# Altium integrated library Infineon_Power_MOSFET.IntLib: 1448 symbols (part 36 of 47)
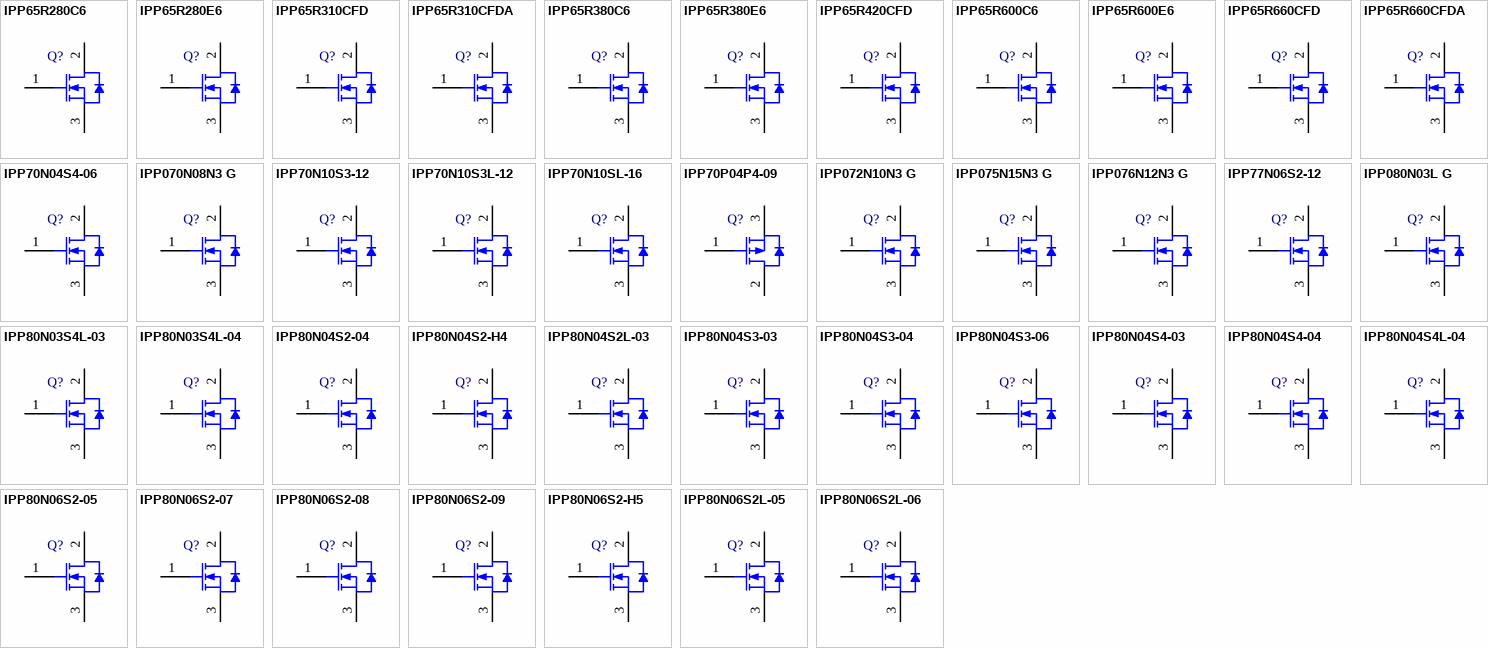
[diagram p72: symbols IPP65R280C6 to IPP80N06S2L-06]

## IPP70N04S4-06
designator Q?
OptiMOS-T2 Power-Transistor, 40 V VDS, 70 A ID, PG-TO220-3-1, Tube, Green; Manufacturer: Infineon; PartNumber: IPP70N04S4-06; Green: TRUE; ID (max): 70 A; IDpuls (max): 280 A; Ptot (max): 58 W; QG: 24.5 nC; RDS (on) (max) (@10V): 6.5 mOhm; RthJC (max): 2.6 K/W; VDS (max): 40 V; VGS(th) (max): 4 V; VGS(th) (min): 2 V; DatasheetVersion: Rev. 1.0; PackageVersion: Jul-12; PackageReference: PG-TO220-3-1; PackageDescription: 3-Pin Plastic (Green) Transistor Single Outline Package, 10 x 9.25 mm Body, 2.54 mm Pitch; Supplier 1: Mouser; Supplier Part Number 1: 726-IPP70N04S4-06; Supplier 2: Digi-Key; Supplier Part Number 2: IPP70N04S4-06-ND; Halogen-free: TRUE; Packing: Tube; Technology: OptiMOS-T2; Mounting Technology: Through Hole; ComponentLink1Description: Manufacturer URL; ComponentLink1URL: http://www.infineon.com/; ComponentLink2Description: Datasheet; ComponentLink2URL: http://www.infineon.com/dgdl/IPP_B_I70N04S4-06_DS_1_0.pdf?folderId=db3a304412b407950112b42b75b74520&fileId=db3a304328c6bd5c01291c501db65d98&location=en.Products.Automotive_ICs.Automotive_MOSFETs.Single__N-Channel_40V_MOSFETs.DATASHEET.IPP_B_I70N04S4-06_DS_1_0.pdf; ComponentLink3Description: Package Specification; ComponentLink3URL: http://www.infineon.com/dgdl/BTS117_DS_14.pdf?folderId=db3a30431400ef68011421b54e2e0564&fileId=db3a30433a747525013abff8302d549c&location=en.Products.Automotive_ICs.Smart_High-_and_Low-Side_Switches.HITFET___TEMPFET__-_Smart_Low-Side_Switches.DATASHEET.BTS117_DS_14.pdf
footprint INF-PG-TO220-3-1 (FM, 3-Leads, Body 10x4.4mm, Pitch 2.54mm)
pins: 1 GATE, 2 DRAIN, 3 SOURCE

## IPP070N08N3 G
designator Q?
N-Channel OptiMOS 3 Power-Transistor, 80 V VDS, 80 A ID, -55 to 175 degC, PG-TO220-3-1, Tube, Green; Manufacturer: Infineon; PartNumber: IPP070N08N3 G; Green: TRUE; ID (max): 80 A; IDpuls (max): 320 A; Polarity: N; Ptot (max): 136 W; QG: 42 nC; RDS (on) (max): 7 mOhm; Rth: 1.1 K/W; RthJA (max): 62 K/W; VDS (max): 80 V; VGS(th) (max): 3.5 V; VGS(th) (min): 2 V; DatasheetVersion: Rev. 2.3; PackageVersion: Rev. 05, 08/2007; PackageReference: PG-TO220-3-1; PackageDescription: 3-Pin Plastic (Green) Transistor Single Outline Package, 10.03 x 8.98 mm Body, 2.54 mm Pitch; Supplier 1: Mouser; Supplier Part Number 1: 726-IPP070N08N3G; Supplier 2: Digi-Key; Supplier Part Number 2: IPP070N08N3 G-ND; Halogen-free: TRUE; Packing: Tube; RthJC (max): 1.1 K/W; Mounting Technology: Through Hole; ComponentLink1Description: Manufacturer URL; ComponentLink1URL: http://www.infineon.com/; ComponentLink2Description: Datasheet; ComponentLink2URL: http://www.infineon.com/dgdl/IPP070N08N3_Rev2.3.pdf?folderId=db3a304313b8b5a60113cee8763b02d7&fileId=db3a30431add1d95011ae849e8f1566b; ComponentLink3Description: Package Specification; ComponentLink3URL: http://www.infineon.com/dgdl/IPP028N08N3_Rev1%5B1%5D.0.pdf?folderId=db3a304313b8b5a60113cee8763b02d7&fileId=db3a30432313ff5e0123a3c08e7326b5
footprint INF-PG-TO220-3-1_A_V (FM, 3-Leads, Body 10.03x8.98mm, Pitch 2.54mm)
pins: 1 GATE, 2 DRAIN, 3 SOURCE

## IPP70N10S3-12
designator Q?
OptiMOS-T Power-Transistor, 100 V VDS, 70 A ID, PG-TO220-3-1, Tube, Green; Manufacturer: Infineon; PartNumber: IPP70N10S3-12; Green: TRUE; ID (max): 70 A; IDpuls (max): 280 A; Ptot (max): 125 W; QG: 51 nC; RDS (on) (max) (@10V): 11.6 mOhm; RthJC (max): 1.2 K/W; VDS (max): 100 V; VGS(th) (max): 4 V; VGS(th) (min): 2 V; DatasheetVersion: Rev. 1.0; PackageVersion: Jul-12; PackageReference: PG-TO220-3-1; PackageDescription: 3-Pin Plastic (Green) Transistor Single Outline Package, 10 x 9.25 mm Body, 2.54 mm Pitch; Supplier 1: Mouser; Supplier Part Number 1: 726-IPP70N10S312; Supplier 2: Digi-Key; Supplier Part Number 2: IPP70N10S3-12-ND; Halogen-free: TRUE; Packing: Tube; Technology: OptiMOS-T; Mounting Technology: Through Hole; ComponentLink1Description: Manufacturer URL; ComponentLink1URL: http://www.infineon.com/; ComponentLink2Description: Datasheet; ComponentLink2URL: http://www.infineon.com/dgdl/IPP_B_I70N10S3-12_neu.pdf?folderId=db3a3043156fd5730115c7d50620107c&fileId=db3a30431a5c32f2011a909803815967&location=en.Products.Automotive_ICs.Automotive_MOSFETs.Single__N-Channel_100V_MOSFETs.DATASHEET.IPP_B_I70N10S3-12_neu.pdf; ComponentLink3Description: Package Specification; ComponentLink3URL: http://www.infineon.com/dgdl/BTS117_DS_14.pdf?folderId=db3a30431400ef68011421b54e2e0564&fileId=db3a30433a747525013abff8302d549c&location=en.Products.Automotive_ICs.Smart_High-_and_Low-Side_Switches.HITFET___TEMPFET__-_Smart_Low-Side_Switches.DATASHEET.BTS117_DS_14.pdf
footprint INF-PG-TO220-3-1 (FM, 3-Leads, Body 10x4.4mm, Pitch 2.54mm)
pins: 1 GATE, 2 DRAIN, 3 SOURCE

## IPP70N10S3L-12
designator Q?
OptiMOS-T Power-Transistor, 100 V VDS, 70 A ID, PG-TO220-3-1, Tube, Green; Manufacturer: Infineon; PartNumber: IPP70N10S3L-12; Green: TRUE; ID (max): 70 A; IDpuls (max): 280 A; Ptot (max): 125 W; QG: 60 nC; RDS (on) (max) (@10V): 12.1 mOhm; RDS (on) (max) (@4.5V): 15.8 mOhm; RthJC (max): 1.2 K/W; VDS (max): 100 V; VGS(th) (max): 2.4 V; VGS(th) (min): 1.2 V; DatasheetVersion: Rev. 1.2; PackageVersion: Jul-12; PackageReference: PG-TO220-3-1; PackageDescription: 3-Pin Plastic (Green) Transistor Single Outline Package, 10 x 9.25 mm Body, 2.54 mm Pitch; Supplier 1: Mouser; Supplier Part Number 1: 726-IPP70N10S3L-12; Supplier 2: Digi-Key; Supplier Part Number 2: IPP70N10S3L-12-ND; Halogen-free: TRUE; Packing: Tube; Technology: OptiMOS-T; Mounting Technology: Through Hole; ComponentLink1Description: Manufacturer URL; ComponentLink1URL: http://www.infineon.com/; ComponentLink2Description: Datasheet; ComponentLink2URL: http://www.infineon.com/dgdl/IPP_B_I70N10S3L-12_DS_1_2.pdf?folderId=db3a3043156fd5730115c7d50620107c&fileId=db3a30431a5c32f2011a907bea255942&location=en.Products.Automotive_ICs.Automotive_MOSFETs.Single__N-Channel_100V_MOSFETs.DATASHEET.IPP_B_I70N10S3L-12_DS_1_2.pdf; ComponentLink3Description: Package Specification; ComponentLink3URL: http://www.infineon.com/dgdl/BTS117_DS_14.pdf?folderId=db3a30431400ef68011421b54e2e0564&fileId=db3a30433a747525013abff8302d549c&location=en.Products.Automotive_ICs.Smart_High-_and_Low-Side_Switches.HITFET___TEMPFET__-_Smart_Low-Side_Switches.DATASHEET.BTS117_DS_14.pdf
footprint INF-PG-TO220-3-1 (FM, 3-Leads, Body 10x4.4mm, Pitch 2.54mm)
pins: 1 GATE, 2 DRAIN, 3 SOURCE

## IPP70N10SL-16
designator Q?
SIPMOS Power-Transistor, 100 V VDS, 70 A ID, PG-TO220-3-1, Tube, Green; Manufacturer: Infineon; PartNumber: IPP70N10SL-16; Green: TRUE; ID (max): 70 A; IDpuls (max): 280 A; Ptot (max): 250 W; QG: 160 nC; RDS (on) (max) (@10V): 16 mOhm; RDS (on) (max) (@4.5V): 25 mOhm; RthJC (max): 0.6 K/W; VDS (max): 100 V; VGS(th) (max): 2 V; VGS(th) (min): 1.2 V; PackageVersion: Jul-12; PackageReference: PG-TO220-3-1; PackageDescription: 3-Pin Plastic (Green) Transistor Single Outline Package, 10 x 9.25 mm Body, 2.54 mm Pitch; Supplier 1: Mouser; Supplier Part Number 1: 726-IPP70N10SL16; Supplier 2: Digi-Key; Supplier Part Number 2: IPP70N10SL-16-ND; Halogen-free: TRUE; Packing: Tube; Technology: SIPMOS; Mounting Technology: Through Hole; ComponentLink1Description: Manufacturer URL; ComponentLink1URL: http://www.infineon.com/; ComponentLink2Description: Datasheet; ComponentLink2URL: http://www.infineon.com/dgdl/IPP_B_I70N10SL-16.pdf?folderId=db3a304412b407950112b42a6a0a4339&fileId=db3a304412b407950112b42a72ce4342&location=en.Products.Automotive_ICs.Automotive_MOSFETs.Single__N-Channel_100V_MOSFETs.DATASHEET.IPP_B_I70N10SL-16.pdf; ComponentLink3Description: Package Specification; ComponentLink3URL: http://www.infineon.com/dgdl/BTS117_DS_14.pdf?folderId=db3a30431400ef68011421b54e2e0564&fileId=db3a30433a747525013abff8302d549c&location=en.Products.Automotive_ICs.Smart_High-_and_Low-Side_Switches.HITFET___TEMPFET__-_Smart_Low-Side_Switches.DATASHEET.BTS117_DS_14.pdf
footprint INF-PG-TO220-3-1 (FM, 3-Leads, Body 10x4.4mm, Pitch 2.54mm)
pins: 1 GATE, 2 DRAIN, 3 SOURCE

## IPP70P04P4-09
designator Q?
OptiMOS-P2 Power-Transistor, -40 V VDS, -70 A ID, PG-TO220-3-1, Tube, Green; Manufacturer: Infineon; PartNumber: IPP70P04P4-09; Green: TRUE; ID (max): -70 A; IDpuls (max): -288 A; Ptot (max): 75 W; QG: 54 nC; RDS (on) (max) (@10V): 9.4 mOhm; RthJC (max): 2 K/W; VDS (max): -40 V; VGS(th) (max): -4 V; VGS(th) (min): -2 V; DatasheetVersion: Rev. 1.3; PackageVersion: Jul-12; PackageReference: PG-TO220-3-1; PackageDescription: 3-Pin Plastic (Green) Transistor Single Outline Package, 10 x 9.25 mm Body, 2.54 mm Pitch; Supplier 1: Mouser; Supplier Part Number 1: 726-IPP70P04P4-09; Halogen-free: TRUE; Packing: Tube; Technology: OptiMOS-P2; Mounting Technology: Through Hole; ComponentLink1Description: Manufacturer URL; ComponentLink1URL: http://www.infineon.com/; ComponentLink2Description: Datasheet; ComponentLink2URL: http://www.infineon.com/dgdl/IPP_B_I70P04P4-09_DS_13.pdf?folderId=db3a304412b407950112b42b75b74520&fileId=db3a30432f69f146012f782d29312e0f&location=en.Products.Automotive_ICs.Automotive_MOSFETs.Single__P-Channel_40V_MOSFETs.DATASHEET.IPP_B_I70P04P4-09_DS_13.pdf; ComponentLink3Description: Package Specification; ComponentLink3URL: http://www.infineon.com/dgdl/BTS117_DS_14.pdf?folderId=db3a30431400ef68011421b54e2e0564&fileId=db3a30433a747525013abff8302d549c&location=en.Products.Automotive_ICs.Smart_High-_and_Low-Side_Switches.HITFET___TEMPFET__-_Smart_Low-Side_Switches.DATASHEET.BTS117_DS_14.pdf
footprint INF-PG-TO220-3-1 (FM, 3-Leads, Body 10x4.4mm, Pitch 2.54mm)
pins: 1 GATE, 2 DRAIN, 3 SOURCE

## IPP072N10N3 G
designator Q?
N-Channel OptiMOS 3 Power-Transistor, 100 V VDS, 80 A ID, -55 to 175 degC, PG-TO220-3-1, Tube, Green; Manufacturer: Infineon; PartNumber: IPP072N10N3 G; Green: TRUE; ID (max): 80 A; IDpuls (max): 320 A; Polarity: N; Ptot (max): 150 W; QG: 51 nC; RDS (on) (max): 7.2 mOhm; Rth: 1 K/W; RthJA (max): 62 K/W; VDS (max): 100 V; VGS(th) (max): 3.5 V; VGS(th) (min): 2 V; DatasheetVersion: Rev. 2.1; PackageVersion: Rev. 05, 08/2007; PackageReference: PG-TO220-3-1; PackageDescription: 3-Pin Plastic (Green) Transistor Single Outline Package, 10.03 x 8.98 mm Body, 2.54 mm Pitch; Supplier 1: Mouser; Supplier Part Number 1: 726-IPP072N10N3G; Supplier 2: Digi-Key; Supplier Part Number 2: IPP072N10N3 G-ND; Halogen-free: TRUE; Packing: Tube; RthJC (max): 1 K/W; Mounting Technology: Through Hole; ComponentLink1Description: Manufacturer URL; ComponentLink1URL: http://www.infineon.com/; ComponentLink2Description: Datasheet; ComponentLink2URL: http://www.infineon.com/dgdl/IPP072N10N3+G_Rev2%5B1%5D.1.pdf?folderId=db3a304313b8b5a60113cee8763b02d7&fileId=db3a30432313ff5e012393bed2d20405; ComponentLink3Description: Package Specification; ComponentLink3URL: http://www.infineon.com/dgdl/IPP028N08N3_Rev1%5B1%5D.0.pdf?folderId=db3a304313b8b5a60113cee8763b02d7&fileId=db3a30432313ff5e0123a3c08e7326b5
footprint INF-PG-TO220-3-1_A_V (FM, 3-Leads, Body 10.03x8.98mm, Pitch 2.54mm)
pins: 1 GATE, 2 DRAIN, 3 SOURCE

## IPP075N15N3 G
designator Q?
N-Channel OptiMOS 3 Power-Transistor, 150 V VDS, 100 A ID, -55 to 175 degC, PG-TO220-3-1, Tube, Green; Manufacturer: Infineon; PartNumber: IPP075N15N3 G; Green: TRUE; ID (max): 100 A; IDpuls (max): 400 A; Polarity: N; Ptot (max): 300 W; QG: 70 nC; RDS (on) (max): 7.5 mOhm; Rth: 0.5 K/W; RthJA (max): 62 K/W; VDS (max): 150 V; VGS(th) (max): 4 V; VGS(th) (min): 2 V; DatasheetVersion: Rev. 2.06; PackageVersion: Rev. 05, 08/2007; PackageReference: PG-TO220-3-1; PackageDescription: 3-Pin Plastic (Green) Transistor Single Outline Package, 10.03 x 8.98 mm Body, 2.54 mm Pitch; Supplier 1: Mouser; Supplier Part Number 1: 726-IPP075N15N3G; Supplier 2: Newark; Supplier Part Number 2: 60R2745; Supplier 3: Farnell; Supplier Part Number 3: 1775632; Supplier 4: Digi-Key; Supplier Part Number 4: IPP075N15N3 G-ND; Halogen-free: TRUE; Packing: Tube; RthJC (max): 0.5 K/W; Mounting Technology: Through Hole; ComponentLink1Description: Manufacturer URL; ComponentLink1URL: http://www.infineon.com/; ComponentLink2Description: Datasheet; ComponentLink2URL: http://www.infineon.com/dgdl/IPP075N15N3+G_Rev26.pdf?folderId=db3a304313b8b5a60113cee8763b02d7&fileId=db3a30432313ff5e012399f743143bad; ComponentLink3Description: Package Specification; ComponentLink3URL: http://www.infineon.com/dgdl/IPP028N08N3_Rev1%5B1%5D.0.pdf?folderId=db3a304313b8b5a60113cee8763b02d7&fileId=db3a30432313ff5e0123a3c08e7326b5
footprint INF-PG-TO220-3-1_A_V (FM, 3-Leads, Body 10.03x8.98mm, Pitch 2.54mm)
pins: 1 GATE, 2 DRAIN, 3 SOURCE

## IPP076N12N3 G
designator Q?
N-Channel OptiMOS 3 Power-Transistor, 120 V VDS, 100 A ID, -55 to 175 degC, PG-TO220-3-1, Tube, Green; Manufacturer: Infineon; PartNumber: IPP076N12N3 G; Green: TRUE; ID (max): 100 A; IDpuls (max): 400 A; Polarity: N; Ptot (max): 188 W; QG: 76 nC; RDS (on) (max): 7.6 mOhm; Rth: 0.8 K/W; RthJA (max): 62 K/W; VDS (max): 120 V; VGS(th) (max): 4 V; VGS(th) (min): 2 V; DatasheetVersion: Rev. 2.3; PackageVersion: Rev. 05, 08/2007; PackageReference: PG-TO220-3-1; PackageDescription: 3-Pin Plastic (Green) Transistor Single Outline Package, 10.03 x 8.98 mm Body, 2.54 mm Pitch; Supplier 1: Mouser; Supplier Part Number 1: 726-IPP076N12N3GXK; Supplier 2: Digi-Key; Supplier Part Number 2: IPP076N12N3 G-ND; Halogen-free: TRUE; Packing: Tube; RthJC (max): 0.8 K/W; Mounting Technology: Through Hole; ComponentLink1Description: Manufacturer URL; ComponentLink1URL: http://www.infineon.com/; ComponentLink2Description: Datasheet; ComponentLink2URL: http://www.infineon.com/dgdl/IPP_I076N12N3+G_Rev2.3.pdf?folderId=db3a304313b8b5a60113cee8763b02d7&fileId=db3a30432239cccd0122a77a83ab7cd4; ComponentLink3Description: Package Specification; ComponentLink3URL: http://www.infineon.com/dgdl/IPP028N08N3_Rev1%5B1%5D.0.pdf?folderId=db3a304313b8b5a60113cee8763b02d7&fileId=db3a30432313ff5e0123a3c08e7326b5
footprint INF-PG-TO220-3-1_A_V (FM, 3-Leads, Body 10.03x8.98mm, Pitch 2.54mm)
pins: 1 GATE, 2 DRAIN, 3 SOURCE

## IPP77N06S2-12
designator Q?
OptiMOS Power-Transistor, 55 V VDS, 77 A ID, PG-TO220-3-1, Tube, Green; Manufacturer: Infineon; PartNumber: IPP77N06S2-12; Green: TRUE; ID (max): 77 A; IDpuls (max): 308 A; Ptot (max): 158 W; QG: 45 nC; RDS (on) (max) (@10V): 12 mOhm; RthJC (max): 0.95 K/W; VDS (max): 55 V; VGS(th) (max): 4 V; VGS(th) (min): 2.1 V; DatasheetVersion: Rev. 1.0; PackageVersion: Jul-12; PackageReference: PG-TO220-3-1; PackageDescription: 3-Pin Plastic (Green) Transistor Single Outline Package, 10 x 9.25 mm Body, 2.54 mm Pitch; Supplier 1: Mouser; Supplier Part Number 1: 726-IPP77N06S212; Supplier 2: Digi-Key; Supplier Part Number 2: IPP77N06S2-12-ND; Halogen-free: TRUE; Packing: Tube; Technology: OptiMOS; Mounting Technology: Through Hole; ComponentLink1Description: Manufacturer URL; ComponentLink1URL: http://www.infineon.com/; ComponentLink2Description: Datasheet; ComponentLink2URL: http://www.infineon.com/dgdl/IPP_B77N06S2-12_green.pdf?folderId=db3a304412b407950112b426db703ad9&fileId=db3a304412b407950112b4333a115ab8&location=en.Products.Automotive_ICs.Automotive_MOSFETs.Single__N-Channel_55V_MOSFETs.DATASHEET.IPP_B77N06S2-12_green.pdf; ComponentLink3Description: Package Specification; ComponentLink3URL: http://www.infineon.com/dgdl/BTS117_DS_14.pdf?folderId=db3a30431400ef68011421b54e2e0564&fileId=db3a30433a747525013abff8302d549c&location=en.Products.Automotive_ICs.Smart_High-_and_Low-Side_Switches.HITFET___TEMPFET__-_Smart_Low-Side_Switches.DATASHEET.BTS117_DS_14.pdf
footprint INF-PG-TO220-3-1 (FM, 3-Leads, Body 10x4.4mm, Pitch 2.54mm)
pins: 1 GATE, 2 DRAIN, 3 SOURCE

## IPP080N03L G
designator Q?
N-Channel OptiMOS 3 Power-Transistor, 30 V VDS, 50 A ID, -55 to 175 degC, PG-TO220-3-1, Tube, Green; Manufacturer: Infineon; PartNumber: IPP080N03L G; Green: TRUE; ID (max): 50 A; IDpuls (max): 200 A; Polarity: N; Ptot (max): 47 W; QG: 9 nC; RDS (on) (max): 8 mOhm; RDS (on) (max) (@4.5V): 11.8 mOhm; Rth: 3.2 K/W; RthJA (max): 62 K/W; VDS (max): 30 V; VGS(th) (max): 2.2 V; VGS(th) (min): 1 V; DatasheetVersion: Rev. 1.04; PackageVersion: Rev. 05, 08/2007; PackageReference: PG-TO220-3-1; PackageDescription: 3-Pin Plastic (Green) Transistor Single Outline Package, 10.03 x 8.98 mm Body, 2.54 mm Pitch; Supplier 1: Digi-Key; Supplier Part Number 1: IPP080N03L G-ND; Halogen-free: TRUE; Packing: Tube; RthJC (max): 3.2 K/W; Mounting Technology: Through Hole; ComponentLink1Description: Manufacturer URL; ComponentLink1URL: http://www.infineon.com/; ComponentLink2Description: Datasheet; ComponentLink2URL: http://www.infineon.com/dgdl/IPP080N03L_rev2.pdf?folderId=db3a304313b8b5a60113cee8763b02d7&fileId=db3a30432313ff5e01239ed364cd70cd; ComponentLink3Description: Package Specification; ComponentLink3URL: http://www.infineon.com/dgdl/IPP028N08N3_Rev1%5B1%5D.0.pdf?folderId=db3a304313b8b5a60113cee8763b02d7&fileId=db3a30432313ff5e0123a3c08e7326b5
footprint INF-PG-TO220-3-1_A_V (FM, 3-Leads, Body 10.03x8.98mm, Pitch 2.54mm)
pins: 1 GATE, 2 DRAIN, 3 SOURCE

## IPP80N03S4L-03
designator Q?
OptiMOS-T2 Power-Transistor, 30 V VDS, 80 A ID, PG-TO220-3-1, Tube, Green; Manufacturer: Infineon; PartNumber: IPP80N03S4L-03; Green: TRUE; ID (max): 80 A; IDpuls (max): 320 A; Ptot (max): 136 W; QG: 110 nC; RDS (on) (max) (@10V): 2.7 mOhm; RDS (on) (max) (@4.5V): 3.2 mOhm; RthJC (max): 1.1 K/W; VDS (max): 30 V; VGS(th) (max): 2.2 V; VGS(th) (min): 1 V; DatasheetVersion: Rev. 2.0; PackageVersion: Jul-12; PackageReference: PG-TO220-3-1; PackageDescription: 3-Pin Plastic (Green) Transistor Single Outline Package, 10 x 9.25 mm Body, 2.54 mm Pitch; Supplier 1: Mouser; Supplier Part Number 1: 726-IPP80N03S4L-03; Supplier 2: Digi-Key; Supplier Part Number 2: IPP80N03S4L-03-ND; Halogen-free: TRUE; Packing: Tube; Technology: OptiMOS-T2; Mounting Technology: Through Hole; ComponentLink1Description: Manufacturer URL; ComponentLink1URL: http://www.infineon.com/; ComponentLink2Description: Datasheet; ComponentLink2URL: http://www.infineon.com/dgdl/IPB80N03S4L-02_IPP_I80N03S4L_03_DS_2_0.pdf?folderId=db3a304412b407950112b426f7da3b27&fileId=db3a304412b407950112b426fb253b37&location=en.Products.Automotive_ICs.Automotive_MOSFETs.Single__N-Channel_30V_MOSFETs.DATASHEET.IPB80N03S4L-02_IPP_I80N03S4L_03_DS_2_0.pdf; ComponentLink3Description: Package Specification; ComponentLink3URL: http://www.infineon.com/dgdl/BTS117_DS_14.pdf?folderId=db3a30431400ef68011421b54e2e0564&fileId=db3a30433a747525013abff8302d549c&location=en.Products.Automotive_ICs.Smart_High-_and_Low-Side_Switches.HITFET___TEMPFET__-_Smart_Low-Side_Switches.DATASHEET.BTS117_DS_14.pdf
footprint INF-PG-TO220-3-1 (FM, 3-Leads, Body 10x4.4mm, Pitch 2.54mm)
pins: 1 GATE, 2 DRAIN, 3 SOURCE

## IPP80N03S4L-04
designator Q?
OptiMOS-T2 Power-Transistor, 30 V VDS, 80 A ID, PG-TO220-3-1, Tube, Green; Manufacturer: Infineon; PartNumber: IPP80N03S4L-04; Green: TRUE; ID (max): 80 A; IDpuls (max): 320 A; Ptot (max): 94 W; QG: 60 nC; RDS (on) (max) (@10V): 3.7 mOhm; RDS (on) (max) (@4.5V): 5 mOhm; RthJC (max): 1.6 K/W; VDS (max): 30 V; VGS(th) (max): 2.2 V; VGS(th) (min): 1 V; DatasheetVersion: Rev. 2.1; PackageVersion: Jul-12; PackageReference: PG-TO220-3-1; PackageDescription: 3-Pin Plastic (Green) Transistor Single Outline Package, 10 x 9.25 mm Body, 2.54 mm Pitch; Supplier 1: Mouser; Supplier Part Number 1: 726-IPP80N03S4L-04; Supplier 2: Digi-Key; Supplier Part Number 2: IPP80N03S4L-04-ND; Halogen-free: TRUE; Packing: Tube; Technology: OptiMOS-T2; Mounting Technology: Through Hole; ComponentLink1Description: Manufacturer URL; ComponentLink1URL: http://www.infineon.com/; ComponentLink2Description: Datasheet; ComponentLink2URL: http://www.infineon.com/dgdl/IPB80N03S4L-03_IPP_I80N03S4L_04_DS_2_1.pdf?folderId=db3a304412b407950112b426f7da3b27&fileId=db3a304412b407950112b426f8443b28&location=en.Products.Automotive_ICs.Automotive_MOSFETs.Single__N-Channel_30V_MOSFETs.DATASHEET.IPB80N03S4L-03_IPP_I80N03S4L_04_DS_2_1.pdf; ComponentLink3Description: Package Specification; ComponentLink3URL: http://www.infineon.com/dgdl/BTS117_DS_14.pdf?folderId=db3a30431400ef68011421b54e2e0564&fileId=db3a30433a747525013abff8302d549c&location=en.Products.Automotive_ICs.Smart_High-_and_Low-Side_Switches.HITFET___TEMPFET__-_Smart_Low-Side_Switches.DATASHEET.BTS117_DS_14.pdf
footprint INF-PG-TO220-3-1 (FM, 3-Leads, Body 10x4.4mm, Pitch 2.54mm)
pins: 1 GATE, 2 DRAIN, 3 SOURCE

## IPP80N04S2-04
designator Q?
OptiMOS Power-Transistor, 40 V VDS, 80 A ID, PG-TO220-3-1, Tube, Green; Manufacturer: Infineon; PartNumber: IPP80N04S2-04; Green: TRUE; ID (max): 80 A; IDpuls (max): 320 A; Ptot (max): 300 W; QG: 127 nC; RDS (on) (max) (@10V): 3.7 mOhm; RthJC (max): 0.5 K/W; VDS (max): 40 V; VGS(th) (max): 4 V; VGS(th) (min): 2.1 V; DatasheetVersion: Rev. 1.0; PackageVersion: Jul-12; PackageReference: PG-TO220-3-1; PackageDescription: 3-Pin Plastic (Green) Transistor Single Outline Package, 10 x 9.25 mm Body, 2.54 mm Pitch; Supplier 1: Mouser; Supplier Part Number 1: 726-IPP80N04S204; Supplier 2: Digi-Key; Supplier Part Number 2: IPP80N04S2-04-ND; Halogen-free: TRUE; Packing: Tube; Technology: OptiMOS; Mounting Technology: Through Hole; ComponentLink1Description: Manufacturer URL; ComponentLink1URL: http://www.infineon.com/; ComponentLink2Description: Datasheet; ComponentLink2URL: http://www.infineon.com/dgdl/IPP_B_I80N04S2-04_green.pdf?folderId=db3a304412b407950112b408e8c90004&fileId=db3a304412b407950112b42b914f4556&location=en.Products.Automotive_ICs.Automotive_MOSFETs.Single__N-Channel_40V_MOSFETs.DATASHEET.IPP_B_I80N04S2-04_green.pdf; ComponentLink3Description: Package Specification; ComponentLink3URL: http://www.infineon.com/dgdl/BTS117_DS_14.pdf?folderId=db3a30431400ef68011421b54e2e0564&fileId=db3a30433a747525013abff8302d549c&location=en.Products.Automotive_ICs.Smart_High-_and_Low-Side_Switches.HITFET___TEMPFET__-_Smart_Low-Side_Switches.DATASHEET.BTS117_DS_14.pdf
footprint INF-PG-TO220-3-1 (FM, 3-Leads, Body 10x4.4mm, Pitch 2.54mm)
pins: 1 GATE, 2 DRAIN, 3 SOURCE

## IPP80N04S2-H4
designator Q?
OptiMOS Power-Transistor, 40 V VDS, 80 A ID, PG-TO220-3-1, Tube, Green; Manufacturer: Infineon; PartNumber: IPP80N04S2-H4; Green: TRUE; ID (max): 80 A; IDpuls (max): 320 A; Ptot (max): 300 W; QG: 103 nC; RDS (on) (max) (@10V): 4 mOhm; RthJC (max): 0.5 K/W; VDS (max): 40 V; VGS(th) (max): 4 V; VGS(th) (min): 2.1 V; DatasheetVersion: Rev. 1.1; PackageVersion: Jul-12; PackageReference: PG-TO220-3-1; PackageDescription: 3-Pin Plastic (Green) Transistor Single Outline Package, 10 x 9.25 mm Body, 2.54 mm Pitch; Supplier 1: Mouser; Supplier Part Number 1: 726-IPP80N04S2H4; Supplier 2: Digi-Key; Supplier Part Number 2: IPP80N04S2-H4-ND; Halogen-free: TRUE; Packing: Tube; Technology: OptiMOS; Mounting Technology: Through Hole; ComponentLink1Description: Manufacturer URL; ComponentLink1URL: http://www.infineon.com/; ComponentLink2Description: Datasheet; ComponentLink2URL: http://www.infineon.com/dgdl/IPP_B_I80N04S2-H4_DS_1_1.pdf?folderId=db3a304412b407950112b408e8c90004&fileId=db3a304412b407950112b42b79094525&location=en.Products.Automotive_ICs.Automotive_MOSFETs.Single__N-Channel_40V_MOSFETs.DATASHEET.IPP_B_I80N04S2-H4_DS_1_1.pdf; ComponentLink3Description: Package Specification; ComponentLink3URL: http://www.infineon.com/dgdl/BTS117_DS_14.pdf?folderId=db3a30431400ef68011421b54e2e0564&fileId=db3a30433a747525013abff8302d549c&location=en.Products.Automotive_ICs.Smart_High-_and_Low-Side_Switches.HITFET___TEMPFET__-_Smart_Low-Side_Switches.DATASHEET.BTS117_DS_14.pdf
footprint INF-PG-TO220-3-1 (FM, 3-Leads, Body 10x4.4mm, Pitch 2.54mm)
pins: 1 GATE, 2 DRAIN, 3 SOURCE

## IPP80N04S2L-03
designator Q?
OptiMOS Power-Transistor, 40 V VDS, 80 A ID, PG-TO220-3-1, Tube, Green; Manufacturer: Infineon; PartNumber: IPP80N04S2L-03; Green: TRUE; ID (max): 80 A; IDpuls (max): 320 A; Ptot (max): 300 W; QG: 163 nC; RDS (on) (max) (@10V): 3.4 mOhm; RDS (on) (max) (@4.5V): 4.5 mOhm; RthJC (max): 0.5 K/W; VDS (max): 40 V; VGS(th) (max): 2 V; VGS(th) (min): 1.2 V; DatasheetVersion: Rev. 1.0; PackageVersion: Jul-12; PackageReference: PG-TO220-3-1; PackageDescription: 3-Pin Plastic (Green) Transistor Single Outline Package, 10 x 9.25 mm Body, 2.54 mm Pitch; Supplier 1: Mouser; Supplier Part Number 1: 726-IPP80N04S2L03; Supplier 2: Digi-Key; Supplier Part Number 2: IPP80N04S2L-03-ND; Halogen-free: TRUE; Packing: Tube; Technology: OptiMOS; Mounting Technology: Through Hole; ComponentLink1Description: Manufacturer URL; ComponentLink1URL: http://www.infineon.com/; ComponentLink2Description: Datasheet; ComponentLink2URL: http://www.infineon.com/dgdl/IPP_B80N04S2L-03_green.pdf?folderId=db3a304412b407950112b408e8c90004&fileId=db3a304412b407950112b42b7c294529&location=en.Products.Automotive_ICs.Automotive_MOSFETs.Single__N-Channel_40V_MOSFETs.DATASHEET.IPP_B80N04S2L-03_green.pdf; ComponentLink3Description: Package Specification; ComponentLink3URL: http://www.infineon.com/dgdl/BTS117_DS_14.pdf?folderId=db3a30431400ef68011421b54e2e0564&fileId=db3a30433a747525013abff8302d549c&location=en.Products.Automotive_ICs.Smart_High-_and_Low-Side_Switches.HITFET___TEMPFET__-_Smart_Low-Side_Switches.DATASHEET.BTS117_DS_14.pdf
footprint INF-PG-TO220-3-1 (FM, 3-Leads, Body 10x4.4mm, Pitch 2.54mm)
pins: 1 GATE, 2 DRAIN, 3 SOURCE

## IPP80N04S3-03
designator Q?
OptiMOS-T Power-Transistor, 40 V VDS, 80 A ID, PG-TO220-3-1, Tube, Green; Manufacturer: Infineon; PartNumber: IPP80N04S3-03; Green: TRUE; ID (max): 80 A; IDpuls (max): 320 A; Ptot (max): 188 W; QG: 83 nC; RDS (on) (max) (@10V): 3.5 mOhm; RthJC (max): 0.8 K/W; VDS (max): 40 V; VGS(th) (max): 4 V; VGS(th) (min): 2.1 V; DatasheetVersion: Rev. 1.0; PackageVersion: Jul-12; PackageReference: PG-TO220-3-1; PackageDescription: 3-Pin Plastic (Green) Transistor Single Outline Package, 10 x 9.25 mm Body, 2.54 mm Pitch; Supplier 1: Mouser; Supplier Part Number 1: 726-IPP80N04S3-03; Supplier 2: Digi-Key; Supplier Part Number 2: IPP80N04S3-03-ND; Halogen-free: TRUE; Packing: Tube; Technology: OptiMOS-T; Mounting Technology: Through Hole; ComponentLink1Description: Manufacturer URL; ComponentLink1URL: http://www.infineon.com/; ComponentLink2Description: Datasheet; ComponentLink2URL: http://www.infineon.com/dgdl/IPP_B_I80N04S3-03_DS_1_0.pdf?folderId=db3a304412b407950112b42b75b74520&fileId=db3a304412b407950112b42ba23a4587&location=en.Products.Automotive_ICs.Automotive_MOSFETs.Single__N-Channel_40V_MOSFETs.DATASHEET.IPP_B_I80N04S3-03_DS_1_0.pdf; ComponentLink3Description: Package Specification; ComponentLink3URL: http://www.infineon.com/dgdl/BTS117_DS_14.pdf?folderId=db3a30431400ef68011421b54e2e0564&fileId=db3a30433a747525013abff8302d549c&location=en.Products.Automotive_ICs.Smart_High-_and_Low-Side_Switches.HITFET___TEMPFET__-_Smart_Low-Side_Switches.DATASHEET.BTS117_DS_14.pdf
footprint INF-PG-TO220-3-1 (FM, 3-Leads, Body 10x4.4mm, Pitch 2.54mm)
pins: 1 GATE, 2 DRAIN, 3 SOURCE

## IPP80N04S3-04
designator Q?
OptiMOS-T Power-Transistor, 40 V VDS, 80 A ID, PG-TO220-3-1, Tube, Green; Manufacturer: Infineon; PartNumber: IPP80N04S3-04; Green: TRUE; ID (max): 80 A; IDpuls (max): 320 A; Ptot (max): 136 W; QG: 60 nC; RDS (on) (max) (@10V): 4.1 mOhm; RthJC (max): 1.1 K/W; VDS (max): 40 V; VGS(th) (max): 4 V; VGS(th) (min): 2.1 V; DatasheetVersion: Rev. 1.0; PackageVersion: Jul-12; PackageReference: PG-TO220-3-1; PackageDescription: 3-Pin Plastic (Green) Transistor Single Outline Package, 10 x 9.25 mm Body, 2.54 mm Pitch; Supplier 1: Mouser; Supplier Part Number 1: 726-IPP80N04S3-04; Supplier 2: Digi-Key; Supplier Part Number 2: IPP80N04S3-04-ND; Halogen-free: TRUE; Packing: Tube; Technology: OptiMOS-T; Mounting Technology: Through Hole; ComponentLink1Description: Manufacturer URL; ComponentLink1URL: http://www.infineon.com/; ComponentLink2Description: Datasheet; ComponentLink2URL: http://www.infineon.com/dgdl/IPP_B_I80N04S3-04_DS_1_0.pdf?folderId=db3a304412b407950112b42b75b74520&fileId=db3a304412b407950112b42ba313458f&location=en.Products.Automotive_ICs.Automotive_MOSFETs.Single__N-Channel_40V_MOSFETs.DATASHEET.IPP_B_I80N04S3-04_DS_1_0.pdf; ComponentLink3Description: Package Specification; ComponentLink3URL: http://www.infineon.com/dgdl/BTS117_DS_14.pdf?folderId=db3a30431400ef68011421b54e2e0564&fileId=db3a30433a747525013abff8302d549c&location=en.Products.Automotive_ICs.Smart_High-_and_Low-Side_Switches.HITFET___TEMPFET__-_Smart_Low-Side_Switches.DATASHEET.BTS117_DS_14.pdf
footprint INF-PG-TO220-3-1 (FM, 3-Leads, Body 10x4.4mm, Pitch 2.54mm)
pins: 1 GATE, 2 DRAIN, 3 SOURCE

## IPP80N04S3-06
designator Q?
OptiMOS-T Power-Transistor, 40 V VDS, 80 A ID, PG-TO220-3-1, Tube, Green; Manufacturer: Infineon; PartNumber: IPP80N04S3-06; Green: TRUE; ID (max): 80 A; IDpuls (max): 320 A; Ptot (max): 100 W; QG: 36 nC; RDS (on) (max) (@10V): 5.7 mOhm; RthJC (max): 1.5 K/W; VDS (max): 40 V; VGS(th) (max): 4 V; VGS(th) (min): 2.1 V; DatasheetVersion: Rev. 1.1; PackageVersion: Jul-12; PackageReference: PG-TO220-3-1; PackageDescription: 3-Pin Plastic (Green) Transistor Single Outline Package, 10 x 9.25 mm Body, 2.54 mm Pitch; Supplier 1: Mouser; Supplier Part Number 1: 726-IPP80N04S3-06; Supplier 2: Digi-Key; Supplier Part Number 2: IPP80N04S3-06-ND; Halogen-free: TRUE; Packing: Tube; Technology: OptiMOS-T; Mounting Technology: Through Hole; ComponentLink1Description: Manufacturer URL; ComponentLink1URL: http://www.infineon.com/; ComponentLink2Description: Datasheet; ComponentLink2URL: http://www.infineon.com/dgdl/IPP_B_I80N04S3-06_DS_1_1.pdf?folderId=db3a304412b407950112b42b75b74520&fileId=db3a304412b407950112b42ba2ab458b&location=en.Products.Automotive_ICs.Automotive_MOSFETs.Single__N-Channel_40V_MOSFETs.DATASHEET.IPP_B_I80N04S3-06_DS_1_1.pdf; ComponentLink3Description: Package Specification; ComponentLink3URL: http://www.infineon.com/dgdl/BTS117_DS_14.pdf?folderId=db3a30431400ef68011421b54e2e0564&fileId=db3a30433a747525013abff8302d549c&location=en.Products.Automotive_ICs.Smart_High-_and_Low-Side_Switches.HITFET___TEMPFET__-_Smart_Low-Side_Switches.DATASHEET.BTS117_DS_14.pdf
footprint INF-PG-TO220-3-1 (FM, 3-Leads, Body 10x4.4mm, Pitch 2.54mm)
pins: 1 GATE, 2 DRAIN, 3 SOURCE

## IPP80N04S4-03
designator Q?
OptiMOS-T2 Power-Transistor, 40 V VDS, 80 A ID, PG-TO220-3-1, Tube, Green; Manufacturer: Infineon; PartNumber: IPP80N04S4-03; Green: TRUE; ID (max): 80 A; IDpuls (max): 320 A; Ptot (max): 94 W; QG: 51 nC; RDS (on) (max) (@10V): 3.7 mOhm; RthJC (max): 1.6 K/W; VDS (max): 40 V; VGS(th) (max): 4 V; VGS(th) (min): 2 V; DatasheetVersion: Rev. 1.0; PackageVersion: Jul-12; PackageReference: PG-TO220-3-1; PackageDescription: 3-Pin Plastic (Green) Transistor Single Outline Package, 10 x 9.25 mm Body, 2.54 mm Pitch; Supplier 1: Mouser; Supplier Part Number 1: 726-IPP80N04S4-03; Supplier 2: Digi-Key; Supplier Part Number 2: IPP80N04S4-03-ND; Halogen-free: TRUE; Packing: Tube; Technology: OptiMOS-T2; Mounting Technology: Through Hole; ComponentLink1Description: Manufacturer URL; ComponentLink1URL: http://www.infineon.com/; ComponentLink2Description: Datasheet; ComponentLink2URL: http://www.infineon.com/dgdl/IPP_B_I80N04S4-03_DS_1_0.pdf?folderId=db3a304412b407950112b42b75b74520&fileId=db3a304328c6bd5c01291c53fc8b5dab&location=en.Products.Automotive_ICs.Automotive_MOSFETs.Single__N-Channel_40V_MOSFETs.DATASHEET.IPP_B_I80N04S4-03_DS_1_0.pdf; ComponentLink3Description: Package Specification; ComponentLink3URL: http://www.infineon.com/dgdl/BTS117_DS_14.pdf?folderId=db3a30431400ef68011421b54e2e0564&fileId=db3a30433a747525013abff8302d549c&location=en.Products.Automotive_ICs.Smart_High-_and_Low-Side_Switches.HITFET___TEMPFET__-_Smart_Low-Side_Switches.DATASHEET.BTS117_DS_14.pdf
footprint INF-PG-TO220-3-1 (FM, 3-Leads, Body 10x4.4mm, Pitch 2.54mm)
pins: 1 GATE, 2 DRAIN, 3 SOURCE

## IPP80N04S4-04
designator Q?
OptiMOS-T2 Power-Transistor, 40 V VDS, 80 A ID, PG-TO220-3-1, Tube, Green; Manufacturer: Infineon; PartNumber: IPP80N04S4-04; Green: TRUE; ID (max): 80 A; IDpuls (max): 320 A; Ptot (max): 71 W; QG: 33 nC; RDS (on) (max) (@10V): 4.6 mOhm; RthJC (max): 2.1 K/W; VDS (max): 40 V; VGS(th) (max): 4 V; VGS(th) (min): 2 V; DatasheetVersion: Rev. 1.0; PackageVersion: Jul-12; PackageReference: PG-TO220-3-1; PackageDescription: 3-Pin Plastic (Green) Transistor Single Outline Package, 10 x 9.25 mm Body, 2.54 mm Pitch; Supplier 1: Mouser; Supplier Part Number 1: 726-IPP80N04S4-04; Supplier 2: Digi-Key; Supplier Part Number 2: IPP80N04S4-04-ND; Halogen-free: TRUE; Packing: Tube; Technology: OptiMOS-T2; Mounting Technology: Through Hole; ComponentLink1Description: Manufacturer URL; ComponentLink1URL: http://www.infineon.com/; ComponentLink2Description: Datasheet; ComponentLink2URL: http://www.infineon.com/dgdl/IPP_B_I80N04S4-04_DS_1_0.pdf?folderId=db3a304412b407950112b42b75b74520&fileId=db3a304328c6bd5c01291c71d4085dfa&location=en.Products.Automotive_ICs.Automotive_MOSFETs.Single__N-Channel_40V_MOSFETs.DATASHEET.IPP_B_I80N04S4-04_DS_1_0.pdf; ComponentLink3Description: Package Specification; ComponentLink3URL: http://www.infineon.com/dgdl/BTS117_DS_14.pdf?folderId=db3a30431400ef68011421b54e2e0564&fileId=db3a30433a747525013abff8302d549c&location=en.Products.Automotive_ICs.Smart_High-_and_Low-Side_Switches.HITFET___TEMPFET__-_Smart_Low-Side_Switches.DATASHEET.BTS117_DS_14.pdf
footprint INF-PG-TO220-3-1 (FM, 3-Leads, Body 10x4.4mm, Pitch 2.54mm)
pins: 1 GATE, 2 DRAIN, 3 SOURCE

## IPP80N04S4L-04
designator Q?
OptiMOS-T2 Power-Transistor, 40 V VDS, 80 A ID, PG-TO220-3-1, Tube, Green; Manufacturer: Infineon; PartNumber: IPP80N04S4L-04; Green: TRUE; ID (max): 80 A; IDpuls (max): 320 A; Ptot (max): 71 W; QG: 46 nC; RDS (on) (max) (@10V): 4.3 mOhm; RDS (on) (max) (@4.5V): 6 mOhm; RthJC (max): 2.1 K/W; VDS (max): 40 V; VGS(th) (max): 2.2 V; VGS(th) (min): 1.2 V; DatasheetVersion: Rev. 1.0; PackageVersion: Jul-12; PackageReference: PG-TO220-3-1; PackageDescription: 3-Pin Plastic (Green) Transistor Single Outline Package, 10 x 9.25 mm Body, 2.54 mm Pitch; Supplier 1: Mouser; Supplier Part Number 1: 726-IPP80N04S4L-04; Supplier 2: Digi-Key; Supplier Part Number 2: IPP80N04S4L-04-ND; Halogen-free: TRUE; Packing: Tube; Technology: OptiMOS-T2; Mounting Technology: Through Hole; ComponentLink1Description: Manufacturer URL; ComponentLink1URL: http://www.infineon.com/; ComponentLink2Description: Datasheet; ComponentLink2URL: http://www.infineon.com/dgdl/IPP_B_I80N04S4L-04_DS_1_0.pdf?folderId=db3a304412b407950112b42b75b74520&fileId=db3a304328c6bd5c01291c780c375e1e&location=en.Products.Automotive_ICs.Automotive_MOSFETs.Single__N-Channel_40V_MOSFETs.DATASHEET.IPP_B_I80N04S4L-04_DS_1_0.pdf; ComponentLink3Description: Package Specification; ComponentLink3URL: http://www.infineon.com/dgdl/BTS117_DS_14.pdf?folderId=db3a30431400ef68011421b54e2e0564&fileId=db3a30433a747525013abff8302d549c&location=en.Products.Automotive_ICs.Smart_High-_and_Low-Side_Switches.HITFET___TEMPFET__-_Smart_Low-Side_Switches.DATASHEET.BTS117_DS_14.pdf
footprint INF-PG-TO220-3-1 (FM, 3-Leads, Body 10x4.4mm, Pitch 2.54mm)
pins: 1 GATE, 2 DRAIN, 3 SOURCE

## IPP80N06S2-05
designator Q?
OptiMOS Power-Transistor, 55 V VDS, 80 A ID, PG-TO220-3-1, Tube, Green; Manufacturer: Infineon; PartNumber: IPP80N06S2-05; Green: TRUE; ID (max): 80 A; IDpuls (max): 320 A; Ptot (max): 300 W; QG: 130 nC; RDS (on) (max) (@10V): 5.1 mOhm; RthJC (max): 0.5 K/W; VDS (max): 55 V; VGS(th) (max): 4 V; VGS(th) (min): 2.1 V; DatasheetVersion: Rev. 1.0; PackageVersion: Jul-12; PackageReference: PG-TO220-3-1; PackageDescription: 3-Pin Plastic (Green) Transistor Single Outline Package, 10 x 9.25 mm Body, 2.54 mm Pitch; Supplier 1: Mouser; Supplier Part Number 1: 726-IPP80N06S205; Supplier 2: Digi-Key; Supplier Part Number 2: IPP80N06S2-05-ND; Halogen-free: TRUE; Packing: Tube; Technology: OptiMOS; Mounting Technology: Through Hole; ComponentLink1Description: Manufacturer URL; ComponentLink1URL: http://www.infineon.com/; ComponentLink2Description: Datasheet; ComponentLink2URL: http://www.infineon.com/dgdl/IPP_B80N06S2-05_green.pdf?folderId=db3a304412b407950112b426db703ad9&fileId=db3a304412b407950112b43228475740&location=en.Products.Automotive_ICs.Automotive_MOSFETs.Single__N-Channel_55V_MOSFETs.DATASHEET.IPP_B80N06S2-05_green.pdf; ComponentLink3Description: Package Specification; ComponentLink3URL: http://www.infineon.com/dgdl/BTS117_DS_14.pdf?folderId=db3a30431400ef68011421b54e2e0564&fileId=db3a30433a747525013abff8302d549c&location=en.Products.Automotive_ICs.Smart_High-_and_Low-Side_Switches.HITFET___TEMPFET__-_Smart_Low-Side_Switches.DATASHEET.BTS117_DS_14.pdf
footprint INF-PG-TO220-3-1 (FM, 3-Leads, Body 10x4.4mm, Pitch 2.54mm)
pins: 1 GATE, 2 DRAIN, 3 SOURCE

## IPP80N06S2-07
designator Q?
OptiMOS Power-Transistor, 55 V VDS, 80 A ID, PG-TO220-3-1, Tube, Green; Manufacturer: Infineon; PartNumber: IPP80N06S2-07; Green: TRUE; ID (max): 80 A; IDpuls (max): 320 A; Ptot (max): 250 W; QG: 86 nC; RDS (on) (max) (@10V): 6.6 mOhm; RthJC (max): 0.6 K/W; VDS (max): 55 V; VGS(th) (max): 4 V; VGS(th) (min): 2.1 V; DatasheetVersion: Rev. 1.0; PackageVersion: Jul-12; PackageReference: PG-TO220-3-1; PackageDescription: 3-Pin Plastic (Green) Transistor Single Outline Package, 10 x 9.25 mm Body, 2.54 mm Pitch; Supplier 1: Mouser; Supplier Part Number 1: 726-IPP80N06S207; Supplier 2: Digi-Key; Supplier Part Number 2: IPP80N06S2-07-ND; Halogen-free: TRUE; Packing: Tube; Technology: OptiMOS; Mounting Technology: Through Hole; ComponentLink1Description: Manufacturer URL; ComponentLink1URL: http://www.infineon.com/; ComponentLink2Description: Datasheet; ComponentLink2URL: http://www.infineon.com/dgdl/IPP_B_I80N06S2-07_green.pdf?folderId=db3a304412b407950112b426db703ad9&fileId=db3a304412b407950112b43339a25ab4&location=en.Products.Automotive_ICs.Automotive_MOSFETs.Single__N-Channel_55V_MOSFETs.DATASHEET.IPP_B_I80N06S2-07_green.pdf; ComponentLink3Description: Package Specification; ComponentLink3URL: http://www.infineon.com/dgdl/BTS117_DS_14.pdf?folderId=db3a30431400ef68011421b54e2e0564&fileId=db3a30433a747525013abff8302d549c&location=en.Products.Automotive_ICs.Smart_High-_and_Low-Side_Switches.HITFET___TEMPFET__-_Smart_Low-Side_Switches.DATASHEET.BTS117_DS_14.pdf
footprint INF-PG-TO220-3-1 (FM, 3-Leads, Body 10x4.4mm, Pitch 2.54mm)
pins: 1 GATE, 2 DRAIN, 3 SOURCE

## IPP80N06S2-08
designator Q?
OptiMOS Power-Transistor, 55 V VDS, 80 A ID, PG-TO220-3-1, Tube, Green; Manufacturer: Infineon; PartNumber: IPP80N06S2-08; Green: TRUE; ID (max): 80 A; IDpuls (max): 320 A; Ptot (max): 215 W; QG: 72 nC; RDS (on) (max) (@10V): 8 mOhm; RthJC (max): 0.7 K/W; VDS (max): 55 V; VGS(th) (max): 4 V; VGS(th) (min): 2.1 V; DatasheetVersion: Rev. 1.0; PackageVersion: Jul-12; PackageReference: PG-TO220-3-1; PackageDescription: 3-Pin Plastic (Green) Transistor Single Outline Package, 10 x 9.25 mm Body, 2.54 mm Pitch; Supplier 1: Mouser; Supplier Part Number 1: 726-IPP80N06S208; Supplier 2: Digi-Key; Supplier Part Number 2: IPP80N06S2-08-ND; Halogen-free: TRUE; Packing: Tube; Technology: OptiMOS; Mounting Technology: Through Hole; ComponentLink1Description: Manufacturer URL; ComponentLink1URL: http://www.infineon.com/; ComponentLink2Description: Datasheet; ComponentLink2URL: http://www.infineon.com/dgdl/IPP_B_I80N06S2-08_green.pdf?folderId=db3a304412b407950112b426db703ad9&fileId=db3a304412b407950112b43227675735&location=en.Products.Automotive_ICs.Automotive_MOSFETs.Single__N-Channel_55V_MOSFETs.DATASHEET.IPP_B_I80N06S2-08_green.pdf; ComponentLink3Description: Package Specification; ComponentLink3URL: http://www.infineon.com/dgdl/BTS117_DS_14.pdf?folderId=db3a30431400ef68011421b54e2e0564&fileId=db3a30433a747525013abff8302d549c&location=en.Products.Automotive_ICs.Smart_High-_and_Low-Side_Switches.HITFET___TEMPFET__-_Smart_Low-Side_Switches.DATASHEET.BTS117_DS_14.pdf
footprint INF-PG-TO220-3-1 (FM, 3-Leads, Body 10x4.4mm, Pitch 2.54mm)
pins: 1 GATE, 2 DRAIN, 3 SOURCE

## IPP80N06S2-09
designator Q?
OptiMOS Power-Transistor, 55 V VDS, 80 A ID, PG-TO220-3-1, Tube, Green; Manufacturer: Infineon; PartNumber: IPP80N06S2-09; Green: TRUE; ID (max): 80 A; IDpuls (max): 320 A; Ptot (max): 190 W; QG: 60 nC; RDS (on) (max) (@10V): 9.1 mOhm; RthJC (max): 0.8 K/W; VDS (max): 55 V; VGS(th) (max): 4 V; VGS(th) (min): 2.1 V; DatasheetVersion: Rev. 1.0; PackageVersion: Jul-12; PackageReference: PG-TO220-3-1; PackageDescription: 3-Pin Plastic (Green) Transistor Single Outline Package, 10 x 9.25 mm Body, 2.54 mm Pitch; Supplier 1: Mouser; Supplier Part Number 1: 726-IPP80N06S209; Supplier 2: Digi-Key; Supplier Part Number 2: IPP80N06S2-09-ND; Halogen-free: TRUE; Packing: Tube; Technology: OptiMOS; Mounting Technology: Through Hole; ComponentLink1Description: Manufacturer URL; ComponentLink1URL: http://www.infineon.com/; ComponentLink2Description: Datasheet; ComponentLink2URL: http://www.infineon.com/dgdl/IPP_B80N06S2-09_green.pdf?folderId=db3a304412b407950112b426db703ad9&fileId=db3a304412b407950112b4333ec35ad0&location=en.Products.Automotive_ICs.Automotive_MOSFETs.Single__N-Channel_55V_MOSFETs.DATASHEET.IPP_B80N06S2-09_green.pdf; ComponentLink3Description: Package Specification; ComponentLink3URL: http://www.infineon.com/dgdl/BTS117_DS_14.pdf?folderId=db3a30431400ef68011421b54e2e0564&fileId=db3a30433a747525013abff8302d549c&location=en.Products.Automotive_ICs.Smart_High-_and_Low-Side_Switches.HITFET___TEMPFET__-_Smart_Low-Side_Switches.DATASHEET.BTS117_DS_14.pdf
footprint INF-PG-TO220-3-1 (FM, 3-Leads, Body 10x4.4mm, Pitch 2.54mm)
pins: 1 GATE, 2 DRAIN, 3 SOURCE

## IPP80N06S2-H5
designator Q?
OptiMOS Power-Transistor, 55 V VDS, 80 A ID, PG-TO220-3-1, Tube, Green; Manufacturer: Infineon; PartNumber: IPP80N06S2-H5; Green: TRUE; ID (max): 80 A; IDpuls (max): 320 A; Ptot (max): 300 W; QG: 116 nC; RDS (on) (max) (@10V): 5.5 mOhm; RthJC (max): 0.5 K/W; VDS (max): 55 V; VGS(th) (max): 4 V; VGS(th) (min): 2.1 V; DatasheetVersion: Rev. 1.0; PackageVersion: Jul-12; PackageReference: PG-TO220-3-1; PackageDescription: 3-Pin Plastic (Green) Transistor Single Outline Package, 10 x 9.25 mm Body, 2.54 mm Pitch; Supplier 1: Mouser; Supplier Part Number 1: 726-IPP80N06S2H5; Supplier 2: Digi-Key; Supplier Part Number 2: IPP80N06S2-H5-ND; Halogen-free: TRUE; Packing: Tube; Technology: OptiMOS; Mounting Technology: Through Hole; ComponentLink1Description: Manufacturer URL; ComponentLink1URL: http://www.infineon.com/; ComponentLink2Description: Datasheet; ComponentLink2URL: http://www.infineon.com/dgdl/IPP_B80N06S2-H5_green.pdf?folderId=db3a304412b407950112b408e8c90004&fileId=db3a304412b407950112b4333c6c5ac2&location=en.Products.Automotive_ICs.Automotive_MOSFETs.Single__N-Channel_55V_MOSFETs.DATASHEET.IPP_B80N06S2-H5_green.pdf; ComponentLink3Description: Package Specification; ComponentLink3URL: http://www.infineon.com/dgdl/BTS117_DS_14.pdf?folderId=db3a30431400ef68011421b54e2e0564&fileId=db3a30433a747525013abff8302d549c&location=en.Products.Automotive_ICs.Smart_High-_and_Low-Side_Switches.HITFET___TEMPFET__-_Smart_Low-Side_Switches.DATASHEET.BTS117_DS_14.pdf
footprint INF-PG-TO220-3-1 (FM, 3-Leads, Body 10x4.4mm, Pitch 2.54mm)
pins: 1 GATE, 2 DRAIN, 3 SOURCE

## IPP80N06S2L-05
designator Q?
OptiMOS Power-Transistor, 55 V VDS, 80 A ID, PG-TO220-3-1, Tube, Green; Manufacturer: Infineon; PartNumber: IPP80N06S2L-05; Green: TRUE; ID (max): 80 A; IDpuls (max): 320 A; Ptot (max): 300 W; QG: 170 nC; RDS (on) (max) (@10V): 4.8 mOhm; RDS (on) (max) (@4.5V): 6.0 mOhm; RthJC (max): 0.5 K/W; VDS (max): 55 V; VGS(th) (max): 2 V; VGS(th) (min): 1.2 V; DatasheetVersion: Rev. 1.0; PackageVersion: Jul-12; PackageReference: PG-TO220-3-1; PackageDescription: 3-Pin Plastic (Green) Transistor Single Outline Package, 10 x 9.25 mm Body, 2.54 mm Pitch; Supplier 1: Mouser; Supplier Part Number 1: 726-IPP80N06S2L05; Supplier 2: Digi-Key; Supplier Part Number 2: IPP80N06S2L-05-ND; Halogen-free: TRUE; Packing: Tube; Technology: OptiMOS; Mounting Technology: Through Hole; ComponentLink1Description: Manufacturer URL; ComponentLink1URL: http://www.infineon.com/; ComponentLink2Description: Datasheet; ComponentLink2URL: http://www.infineon.com/dgdl/IPP_B_I80N06S2L-05_green.pdf?folderId=db3a304412b407950112b426db703ad9&fileId=db3a304412b407950112b43226fc5731&location=en.Products.Automotive_ICs.Automotive_MOSFETs.Single__N-Channel_55V_MOSFETs.DATASHEET.IPP_B_I80N06S2L-05_green.pdf; ComponentLink3Description: Package Specification; ComponentLink3URL: http://www.infineon.com/dgdl/BTS117_DS_14.pdf?folderId=db3a30431400ef68011421b54e2e0564&fileId=db3a30433a747525013abff8302d549c&location=en.Products.Automotive_ICs.Smart_High-_and_Low-Side_Switches.HITFET___TEMPFET__-_Smart_Low-Side_Switches.DATASHEET.BTS117_DS_14.pdf
footprint INF-PG-TO220-3-1 (FM, 3-Leads, Body 10x4.4mm, Pitch 2.54mm)
pins: 1 GATE, 2 DRAIN, 3 SOURCE

## IPP80N06S2L-06
designator Q?
OptiMOS Power-Transistor, 55 V VDS, 80 A ID, PG-TO220-3-1, Tube, Green; Manufacturer: Infineon; PartNumber: IPP80N06S2L-06; Green: TRUE; ID (max): 80 A; IDpuls (max): 320 A; Ptot (max): 250 W; QG: 114 nC; RDS (on) (max) (@10V): 6.3 mOhm; RDS (on) (max) (@4.5V): 8.4 mOhm; RthJC (max): 0.6 K/W; VDS (max): 55 V; VGS(th) (max): 2 V; VGS(th) (min): 1.2 V; DatasheetVersion: Rev. 1.0; PackageVersion: Jul-12; PackageReference: PG-TO220-3-1; PackageDescription: 3-Pin Plastic (Green) Transistor Single Outline Package, 10 x 9.25 mm Body, 2.54 mm Pitch; Supplier 1: Mouser; Supplier Part Number 1: 726-IPP80N06S2L06; Supplier 2: Digi-Key; Supplier Part Number 2: IPP80N06S2L-06-ND; Halogen-free: TRUE; Packing: Tube; Technology: OptiMOS; Mounting Technology: Through Hole; ComponentLink1Description: Manufacturer URL; ComponentLink1URL: http://www.infineon.com/; ComponentLink2Description: Datasheet; ComponentLink2URL: http://www.infineon.com/dgdl/IPP_B80N06S2L-06_green.pdf?folderId=db3a304412b407950112b426db703ad9&fileId=db3a304412b407950112b43339325ab0&location=en.Products.Automotive_ICs.Automotive_MOSFETs.Single__N-Channel_55V_MOSFETs.DATASHEET.IPP_B80N06S2L-06_green.pdf; ComponentLink3Description: Package Specification; ComponentLink3URL: http://www.infineon.com/dgdl/BTS117_DS_14.pdf?folderId=db3a30431400ef68011421b54e2e0564&fileId=db3a30433a747525013abff8302d549c&location=en.Products.Automotive_ICs.Smart_High-_and_Low-Side_Switches.HITFET___TEMPFET__-_Smart_Low-Side_Switches.DATASHEET.BTS117_DS_14.pdf
footprint INF-PG-TO220-3-1 (FM, 3-Leads, Body 10x4.4mm, Pitch 2.54mm)
pins: 1 GATE, 2 DRAIN, 3 SOURCE

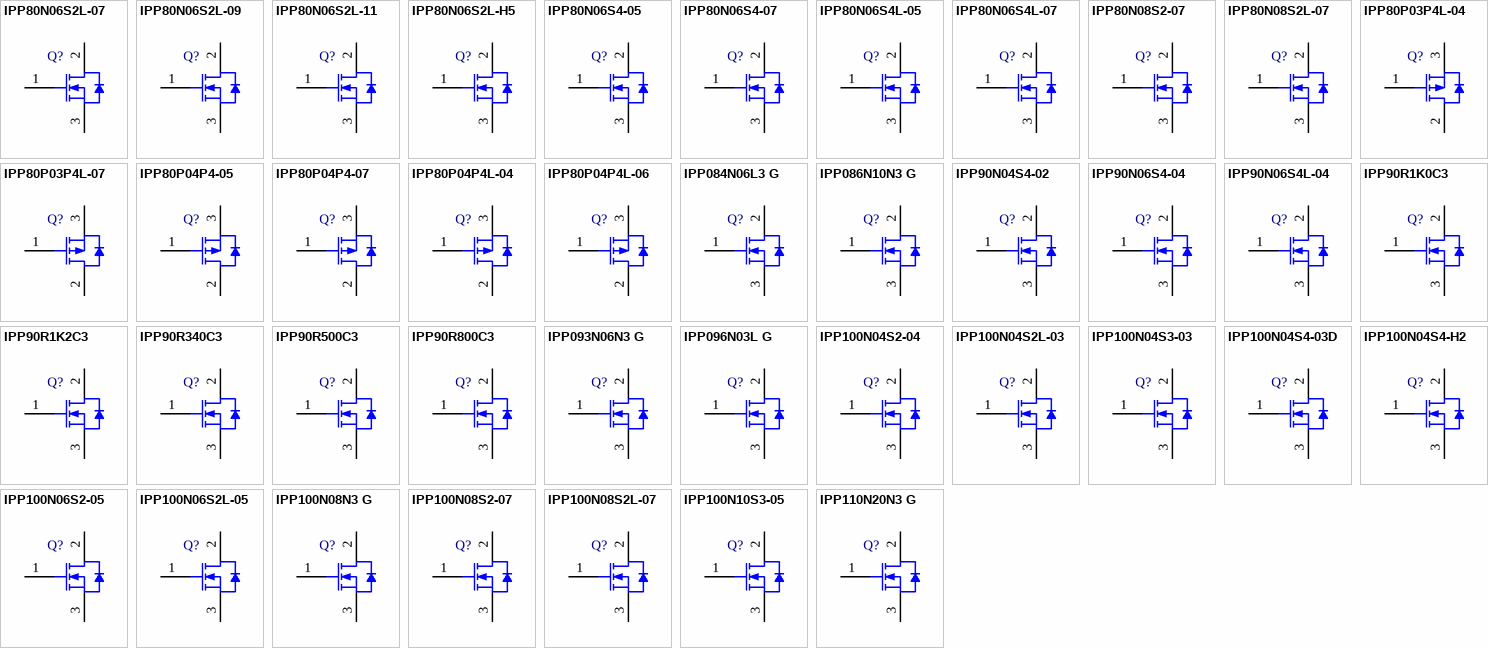
[diagram p29: symbols IPP80N06S2L-07 to IPP110N20N3 G]

## IPP80N06S2L-07
designator Q?
OptiMOS Power-Transistor, 40 V VDS, 80 A ID, PG-TO220-3-1, Tube, Green; Manufacturer: Infineon; PartNumber: IPP80N06S2L-07; Green: TRUE; ID (max): 80 A; IDpuls (max): 320 A; Ptot (max): 210 W; QG: 95 nC; RDS (on) (max) (@10V): 7 mOhm; RDS (on) (max) (@4.5V): 10.0 mOhm; RthJC (max): 0.7 K/W; VDS (max): 40 V; VGS(th) (max): 2 V; VGS(th) (min): 1.2 V; DatasheetVersion: Rev. 1.0; PackageVersion: Jul-12; PackageReference: PG-TO220-3-1; PackageDescription: 3-Pin Plastic (Green) Transistor Single Outline Package, 10 x 9.25 mm Body, 2.54 mm Pitch; Supplier 1: Mouser; Supplier Part Number 1: 726-IPP80N06S2L07; Supplier 2: Digi-Key; Supplier Part Number 2: IPP80N06S2L-07-ND; Halogen-free: TRUE; Packing: Tube; Technology: OptiMOS; Mounting Technology: Through Hole; ComponentLink1Description: Manufacturer URL; ComponentLink1URL: http://www.infineon.com/; ComponentLink2Description: Datasheet; ComponentLink2URL: http://www.infineon.com/dgdl/IPP_B80N06S2L-07_green.pdf?folderId=db3a304412b407950112b426db703ad9&fileId=db3a304412b407950112b43232455757&location=en.Products.Automotive_ICs.Automotive_MOSFETs.Single__N-Channel_55V_MOSFETs.DATASHEET.IPP_B80N06S2L-07_green.pdf; ComponentLink3Description: Package Specification; ComponentLink3URL: http://www.infineon.com/dgdl/BTS117_DS_14.pdf?folderId=db3a30431400ef68011421b54e2e0564&fileId=db3a30433a747525013abff8302d549c&location=en.Products.Automotive_ICs.Smart_High-_and_Low-Side_Switches.HITFET___TEMPFET__-_Smart_Low-Side_Switches.DATASHEET.BTS117_DS_14.pdf
footprint INF-PG-TO220-3-1 (FM, 3-Leads, Body 10x4.4mm, Pitch 2.54mm)
pins: 1 GATE, 2 DRAIN, 3 SOURCE

## IPP80N06S2L-09
designator Q?
OptiMOS Power-Transistor, 55 V VDS, 80 A ID, PG-TO220-3-1, Tube, Green; Manufacturer: Infineon; PartNumber: IPP80N06S2L-09; Green: TRUE; ID (max): 80 A; IDpuls (max): 320 A; Ptot (max): 190 W; QG: 82 nC; RDS (on) (max) (@10V): 8.5 mOhm; RDS (on) (max) (@4.5V): 11.3 mOhm; RthJC (max): 0.8 K/W; VDS (max): 55 V; VGS(th) (max): 2 V; VGS(th) (min): 1.2 V; DatasheetVersion: Rev. 1.0; PackageVersion: Jul-12; PackageReference: PG-TO220-3-1; PackageDescription: 3-Pin Plastic (Green) Transistor Single Outline Package, 10 x 9.25 mm Body, 2.54 mm Pitch; Supplier 1: Mouser; Supplier Part Number 1: 726-IPP80N06S2L09; Supplier 2: Digi-Key; Supplier Part Number 2: IPP80N06S2L-09-ND; Halogen-free: TRUE; Packing: Tube; Technology: OptiMOS; Mounting Technology: Through Hole; ComponentLink1Description: Manufacturer URL; ComponentLink1URL: http://www.infineon.com/; ComponentLink2Description: Datasheet; ComponentLink2URL: http://www.infineon.com/dgdl/IPP_B80N06S2L-09_green.pdf?folderId=db3a304412b407950112b426db703ad9&fileId=db3a304412b407950112b4333f475ad4&location=en.Products.Automotive_ICs.Automotive_MOSFETs.Single__N-Channel_55V_MOSFETs.DATASHEET.IPP_B80N06S2L-09_green.pdf; ComponentLink3Description: Package Specification; ComponentLink3URL: http://www.infineon.com/dgdl/BTS117_DS_14.pdf?folderId=db3a30431400ef68011421b54e2e0564&fileId=db3a30433a747525013abff8302d549c&location=en.Products.Automotive_ICs.Smart_High-_and_Low-Side_Switches.HITFET___TEMPFET__-_Smart_Low-Side_Switches.DATASHEET.BTS117_DS_14.pdf
footprint INF-PG-TO220-3-1 (FM, 3-Leads, Body 10x4.4mm, Pitch 2.54mm)
pins: 1 GATE, 2 DRAIN, 3 SOURCE